# EAGLE library part APXW005A0X43-SRZ (library NASA_LIB)
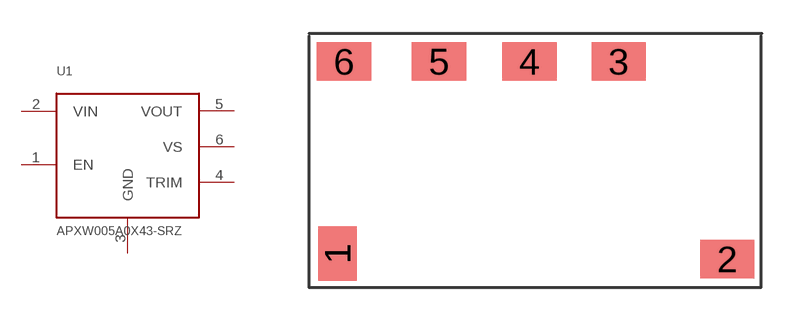
[diagram p26: symbol with the pads of APXW005A0X43-SRZ; footprint APXW005A0X43-SRZ]

Designator prefix U1

## APXW005A0X43-SRZ  [APXW005A0X43-SRZ]
1  EN
2  VIN
3  GND
4  TRIM
5  VOUT
6  VS

## Footprint APXW005A0X43-SRZ (pad centres in mm)
smd 1.73 x 2.44: 1 1.28,1.52
smd 2.44 x 1.73: 2 18.796,1.27; 3 13.92,10.16; 4 9.906,10.16; 5 5.842,10.16; 6 1.574,10.16